# EAGLE library part MAX4355 (library maxim)
16x16 Nonblocking Video Crosspoint Switch with I/O Buffers
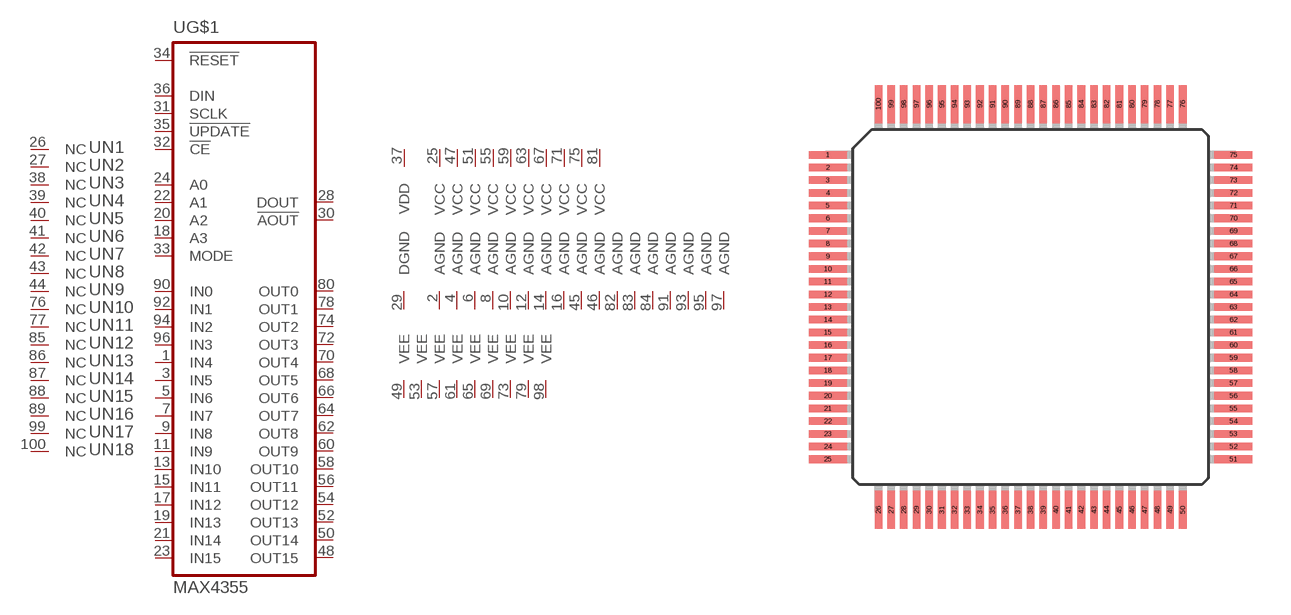
[diagram p379: symbol with the pads of TQFP100; footprint TQFP100]

Designator prefix U; gates G$1=MAX4355 G1=AGND G2=AGND G3=AGND G4=AGND G5=AGND G6=AGND G7=AGND G8=AGND G9=AGND G10=AGND G11=AGND G12=AGND G13=AGND G14=AGND G15=AGND G16=AGND G17=AGND G18=DGND G19=VCC G20=VCC G21=VCC G22=VCC G23=VCC G24=VCC G25=VCC G26=VCC G27=VCC G28=VCC V1=VEE V2=VEE V3=VEE V4=VEE V5=VEE V6=VEE V7=VEE V8=VEE N1=NC N2=NC N3=NC N4=NC N5=NC N6=NC N7=NC N8=NC N9=NC N10=NC N11=NC N12=NC N13=NC N14=NC N15=NC N16=NC N17=NC N18=NC V9=VEE N19=VDD

## MAX4355ECQ (P1I: o)  [TQFP100]
1  G$1:IN4  in
2  G1:AGND  pwr
3  G$1:IN5  in
4  G2:AGND  pwr
5  G$1:IN6  in
6  G3:AGND  pwr
7  G$1:IN7  in
8  G4:AGND  pwr
9  G$1:IN8  in
10  G5:AGND  pwr
11  G$1:IN9  in
12  G6:AGND  pwr
13  G$1:IN10  in
14  G7:AGND  pwr
15  G$1:IN11  in
16  G8:AGND  pwr
17  G$1:IN12  in
18  G$1:A3  in
19  G$1:IN13  in
20  G$1:A2  in
21  G$1:IN14  in
22  G$1:A1  in
23  G$1:IN15  in
24  G$1:A0  in
25  G19:VCC  pwr
26  N1:NC  nc
27  N2:NC  nc
28  G$1:DOUT  out
29  G18:DGND  pwr
30  G$1:!AOUT!  out
31  G$1:SCLK  in
32  G$1:!CE!  in
33  G$1:MODE  in
34  G$1:!RESET!  in
35  G$1:!UPDATE!  in
36  G$1:DIN  in
37  N19:VDD  pwr
38  N3:NC  nc
39  N4:NC  nc
40  N5:NC  nc
41  N6:NC  nc
42  N7:NC  nc
43  N8:NC  nc
44  N9:NC  nc
45  G9:AGND  pwr
46  G10:AGND  pwr
47  G20:VCC  pwr
48  G$1:OUT15  out
49  V1:VEE  pwr
50  G$1:OUT14  out
51  G21:VCC  pwr
52  G$1:OUT13  out
53  V2:VEE  pwr
54  G$1:OUT12  out
55  G22:VCC  pwr
56  G$1:OUT11  out
57  V3:VEE  pwr
58  G$1:OUT10  out
59  G23:VCC  pwr
60  G$1:OUT9  out
61  V4:VEE  pwr
62  G$1:OUT8  out
63  G24:VCC  pwr
64  G$1:OUT7  out
65  V5:VEE  pwr
66  G$1:OUT6  out
67  G25:VCC  pwr
68  G$1:OUT5  out
69  V6:VEE  pwr
70  G$1:OUT4  out
71  G26:VCC  pwr
72  G$1:OUT3  out
73  V7:VEE  pwr
74  G$1:OUT2  out
75  G27:VCC  pwr
76  N10:NC  nc
77  N11:NC  nc
78  G$1:OUT1  out
79  V8:VEE  pwr
80  G$1:OUT0  out
81  G28:VCC  pwr
82  G11:AGND  pwr
83  G12:AGND  pwr
84  G13:AGND  pwr
85  N12:NC  nc
86  N13:NC  nc
87  N14:NC  nc
88  N15:NC  nc
89  N16:NC  nc
90  G$1:IN0  in
91  G14:AGND  pwr
92  G$1:IN1  in
93  G15:AGND  pwr
94  G$1:IN2  in
95  G16:AGND  pwr
96  G$1:IN3  in
97  G17:AGND  pwr
98  V9:VEE  pwr
99  N17:NC  nc
100  N18:NC  nc

## Footprint TQFP100 (pad centres in mm)
Plastic Thin Quad Flat Pack
smd 1.5 x 0.3: 1 -8,6; 2 -8,5.5; 3 -8,5; 4 -8,4.5; 5 -8,4; 6 -8,3.5; 7 -8,3; 8 -8,2.5; 9 -8,2; 10 -8,1.5; 11 -8,1; 12 -8,0.5; 13 -8,0; 14 -8,-0.5; 15 -8,-1; 16 -8,-1.5; 17 -8,-2; 18 -8,-2.5; 19 -8,-3; 20 -8,-3.5; 21 -8,-4; 22 -8,-4.5; 23 -8,-5; 24 -8,-5.5; 25 -8,-6; 51 8,-6; 52 8,-5.5; 53 8,-5; 54 8,-4.5; 55 8,-4; 56 8,-3.5; 57 8,-3; 58 8,-2.5; 59 8,-2; 60 8,-1.5; 61 8,-1; 62 8,-0.5; 63 8,0; 64 8,0.5; 65 8,1; 66 8,1.5; 67 8,2; 68 8,2.5; 69 8,3; 70 8,3.5; 71 8,4; 72 8,4.5; 73 8,5; 74 8,5.5; 75 8,6
smd 0.3 x 1.5: 26 -6,-8; 27 -5.5,-8; 28 -5,-8; 29 -4.5,-8; 30 -4,-8; 31 -3.5,-8; 32 -3,-8; 33 -2.5,-8; 34 -2,-8; 35 -1.5,-8; 36 -1,-8; 37 -0.5,-8; 38 0,-8; 39 0.5,-8; 40 1,-8; 41 1.5,-8; 42 2,-8; 43 2.5,-8; 44 3,-8; 45 3.5,-8; 46 4,-8; 47 4.5,-8; 48 5,-8; 49 5.5,-8; 50 6,-8; 76 6,8; 77 5.5,8; 78 5,8; 79 4.5,8; 80 4,8; 81 3.5,8; 82 3,8; 83 2.5,8; 84 2,8; 85 1.5,8; 86 1,8; 87 0.5,8; 88 0,8; 89 -0.5,8; 90 -1,8; 91 -1.5,8; 92 -2,8; 93 -2.5,8; 94 -3,8; 95 -3.5,8; 96 -4,8; 97 -4.5,8; 98 -5,8; 99 -5.5,8; 100 -6,8